# Altium footprint library SOT95P237X112-3N.PcbLib: 1 footprints
Each footprint in its own frame and in the unit in brackets; x right, y up, seen from the top. Pads: shape width x height; smd on the part's side, far side on the other; paste and mask are expansions set on the pad; w line width, h text height; cw(c..) or ccw(c..) is an arc to the next point about the centre after c.
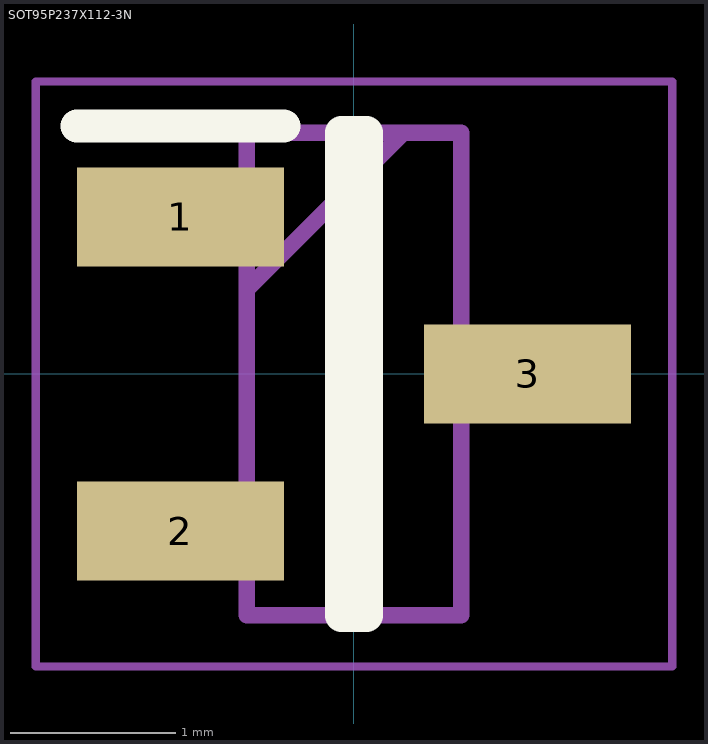
[diagram p0: the footprint, top view; thin cyan lines are the x and y axes]

## SOT95P237X112-3N [mm]
pads (3):
  rect 1.25x0.6 smd: 1(-1.05,0.95) 2(-1.05,-0.95) 3(1.05,0)
Top Overlay:
  lines w0.2: -1.675,1.5 -0.425,1.5 ; -0.075,-1.46 0.075,-1.46 0.075,1.46 -0.075,1.46 -0.075,-1.46
Mechanical 15:
  lines w0.1: -0.65,0.51 0.3,1.46 ; -0.65,-1.46 0.65,-1.46 0.65,1.46 -0.65,1.46 -0.65,-1.46
Mechanical 20:
  lines w0.05: -1.925,-1.77 1.925,-1.77 1.925,1.77 -1.925,1.77 -1.925,-1.77